# Altium schematic symbol library RELAY_COIL.SchLib: 1 symbol
Pins are listed as number, name and electrical type; pins without a type are passive.

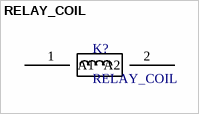
[diagram p0: symbol RELAY_COIL]

## RELAY_COIL
designator K?
Relay coil symbol
pins: 1 A1, 2 A2